# EAGLE library part DSUB-9-RIGHT-ANGLE (library eagleparts)
A-DS_09_A_KG-T2S Female: digikey AE10921-ND Male: digikey AE10968-ND
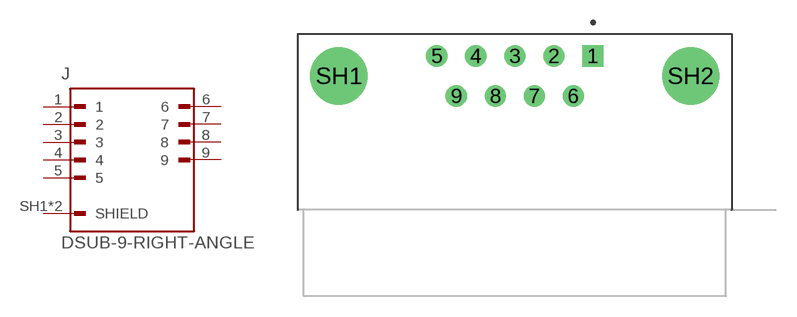
[diagram p11: symbol with the pads of ASSMANN_A-DS_09_A_KG-T2S; footprint ASSMANN_A-DS_09_A_KG-T2S]

Designator prefix J

## DSUB-9-RIGHT-ANGLE (MANUFACTURER: Assmann WSW Components; MAXIMUM_PACKAGE_HEIGHT: 12.8mm; PARTREV: 10; STANDARD: Manufacturer recommendations)  [ASSMANN_A-DS_09_A_KG-T2S]
1  1  pas
2  2  pas
3  3  pas
4  4  pas
5  5  pas
6  6  pas
7  7  pas
8  8  pas
9  9  pas
SH1  SHIELD  pas
SH2  SHIELD  pas

## Footprint ASSMANN_A-DS_09_A_KG-T2S (pad centres in mm)
drill 1 square: 1 5.54,1.42
drill 1: 2 2.77,1.42; 3 0,1.42; 4 -2.77,1.42; 5 -5.54,1.42; 6 4.155,-1.42; 7 1.385,-1.42; 8 -1.385,-1.42; 9 -4.155,-1.42
drill 3.05: SH1 -12.495,0; SH2 12.495,0